# Altium schematic symbol library components.SchLib: 2 symbols
Pins are listed as number, name and electrical type; pins without a type are passive.

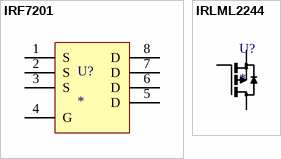
[diagram p0: symbols IRF7201 to IRLML2244]

## IRF7201
designator U?
pins: 1 S, 2 S, 3 S, 4 G, 5 D, 6 D, 7 D, 8 D

## IRLML2244
designator U?
pins: D, G, S